# Altium schematic symbol library LVDS.SchLib: 7 symbols
Pins are listed as number, name and electrical type; pins without a type are passive.

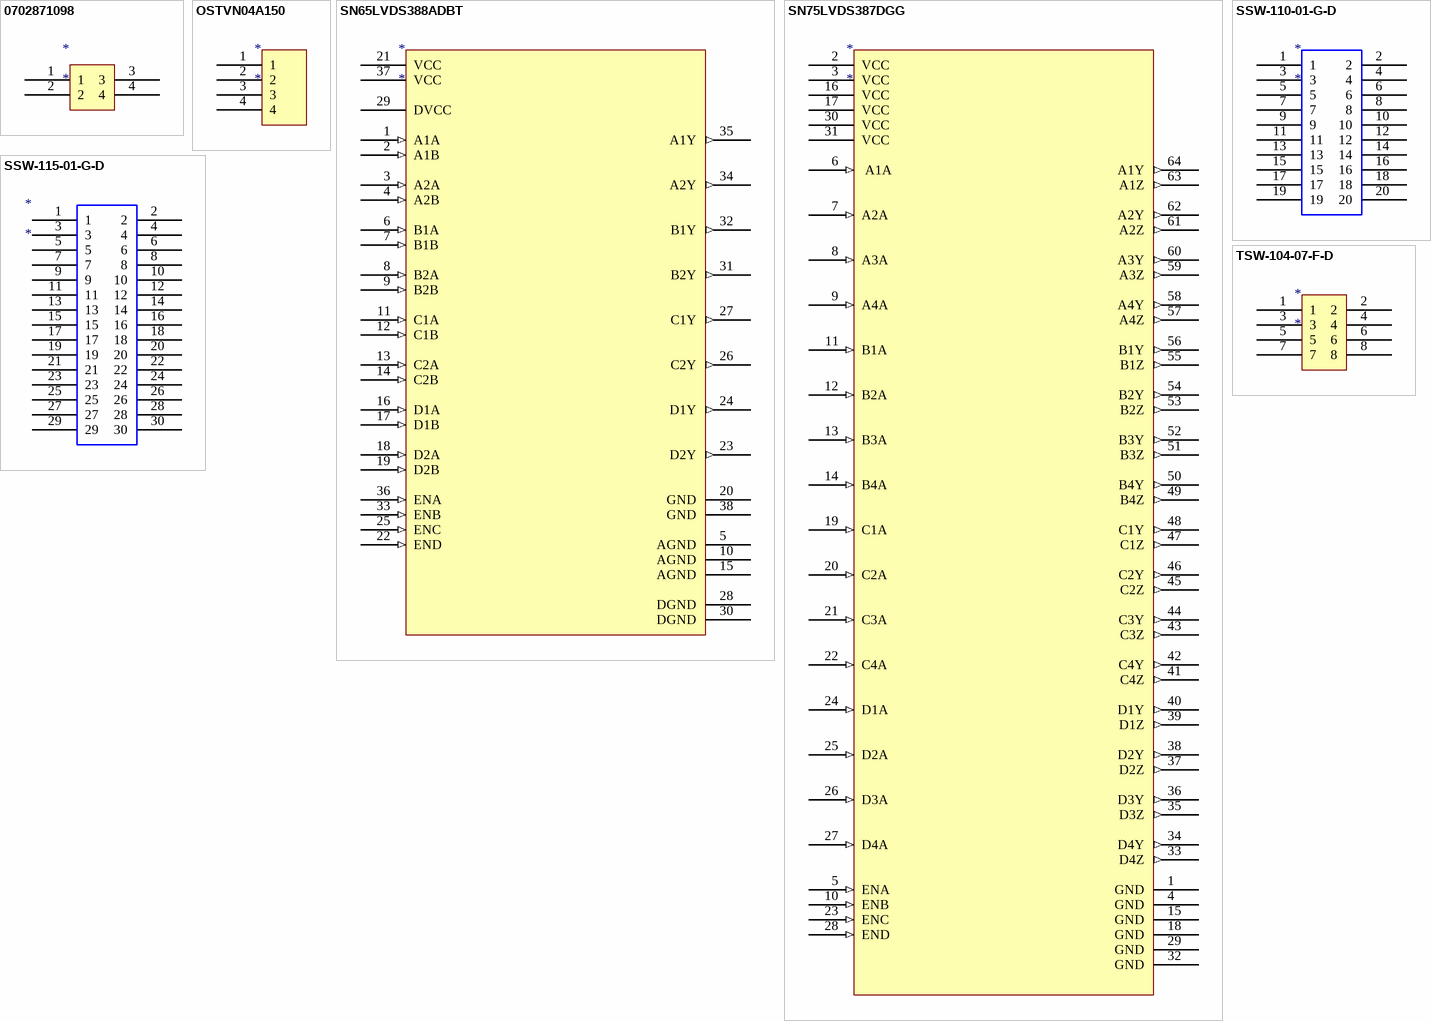
[diagram p0: symbols 0702871098 to TSW-104-07-F-D]

## 0702871098
designator *
Conn Unshrouded Header HDR 4 POS 2.54mm Solder ST Thru-Hole C-Grid® Bag; Manufacturer: Molex; Manufacturer Part Number: 0702871098; Supplier: Mouser; Supplier Part Number: 538-70287-1098; RoHS: Yes; Category: Uncategorized; Stock: 14353; Pricing: 1=0.53, 10=0.448, 50=0.448, 100=0.349, 1000=0.274, 10000=0.221 (USD); RoHS Compliant: Yes; Reach SVHC Compliant: Yes; ComponentLink1URL: https://datasheet.ciiva.com:443/pdfs/VipMasterIC/IC/MOLE/MOLE-S-A0008016477/MOLE-S-A0006766117-1.pdf?src-supplier=IHS+Markit; ComponentLink1Description: https://datasheet.ciiva.com:443/pdfs/VipMasterIC/IC/MOLE/MOLE-S-A0008016477/MOLE-S-A0006766117-1.pdf?src-supplier=IHS+Markit; ComponentLink2URL: https://datasheet.ciiva.com/9470/0702871098-pcb-headers-9470347.pdf?src-supplier=Avnet; ComponentLink2Description: https://datasheet.ciiva.com/9470/0702871098-pcb-headers-9470347.pdf?src-supplier=Avnet; ComponentLink3URL: https://datasheet.ciiva.com/2961/702871098-sd-2961361.pdf?src-supplier=Digi-Key; ComponentLink3Description: https://datasheet.ciiva.com/2961/702871098-sd-2961361.pdf?src-supplier=Digi-Key
pins: 1, 2, 3, 4

## OSTVN04A150
designator *
Barrier Strip Terminal Block, 6A, 1 Row(s), 1 Deck(s); Manufacturer: On-Shore Technology; Manufacturer Part Number: OSTVN04A150; Fastening Method: SCREW; Additional Feature: STANDARD: UL 94V-0, THERMOPLASTIC; Number of Decks: 1; Number of Ways: 4; Voltage Rating: 125V; Wire/Cable Gauge: 20AWG; Safety Approval: UL,CUL; Supplier: Digi-Key; Supplier Part Number: ED10563-ND; RoHS: Yes; Category: Terminal Blocks; Stock: 3152; Pricing: 1=1.39, 10=0.979, 25=0.9128, 50=0.8286, 100=0.8249, 250=0.6966, 500=0.65994, 1000=0.58661, 5000=0.47662 (USD); Mounting Technology: Board; Number of Rows: 1; Current Rating: 6A; Terminal and Terminal Block Type: BARRIER STRIP TERMINAL BLOCK; Reach SVHC Compliant: Yes; RoHS Compliant: Yes; ComponentLink1URL: https://datasheet.ciiva.com:443/pdfs/VipMasterIC/IC/ONST/ONSTS00240/ONSTS00114-1.pdf?src-supplier=IHS+Markit; ComponentLink1Description: https://datasheet.ciiva.com:443/pdfs/VipMasterIC/IC/ONST/ONSTS00240/ONSTS00114-1.pdf?src-supplier=IHS+Markit; ComponentLink2URL: https://datasheet.ciiva.com/823/ostvnxxa150-823966.pdf?src-supplier=Digi-Key; ComponentLink2Description: https://datasheet.ciiva.com/823/ostvnxxa150-823966.pdf?src-supplier=Digi-Key
pins: 1, 2, 3, 4

## SN65LVDS388ADBT
designator *
Line Receiver, 8 Func, 8 Rcvr, CMOS, PDSO38; Manufacturer: Texas Instruments; Manufacturer Part Number: SN65LVDS388ADBT; Package Body Material: Plastic; Differential Output: No; Input Characteristics: DIFFERENTIAL; Channels: 8; Output Low Current-Max: 8mA; Power Supplies: 3.3V; Receive Delay-Max: 4ns; Max Supply Current: 40mA; Max Supply Voltage: 3.6V; Min Supply Voltage: 3V; Qualification Status: Not Qualified; Supplier: Digi-Key; Supplier Part Number: 296-6926-5-ND; RoHS: Yes; Category: Interface ICs; Stock: 22; Pricing: 1=6, 10=5.393, 25=5.0984, 100=4.4187, 250=4.19208, 500=3.76156, 1000=3.1724, 2500=3.01378 (USD); Case/Package: TSSOP; Pins: 38; Package Shape: Rectangular; Terminal Finish: Nickel; Min Operating Temperature: -40°C; Max Operating Temperature: 85°C; JESD-609 Code: e4; Interface IC Type: LINE RECEIVER; Moisture Sensitivity Level: 2; Package Style: SMALL OUTLINE, THIN PROFILE, SHRINK PITCHMeter; Peak Reflow Temperature (Cel): 260°C; Receiver Number of Bits: 8; Nominal Supply Voltage: 3.3V; Surface Mount: Yes; Technology: CMOS; Terminal Form: Gull Wing; Terminal Position: DUAL; Length: 9.7mm; Width: 4.4mm; Height - Seated (Max): 1.2mm; Terminal Pitch: 0.5mm; Temperature Grade: INDUSTRIAL; Reach SVHC Compliant: Yes; RoHS Compliant: Yes; ComponentLink1URL: https://www.ti.com:443/lit/ds/symlink/sn65lvds386.pdf?src-supplier=IHS+Markit; ComponentLink1Description: https://www.ti.com:443/lit/ds/symlink/sn65lvds386.pdf?src-supplier=IHS+Markit; ComponentLink2URL: https://datasheet.ciiva.com/1708/sn65lvds386-1708540.pdf?src-supplier=Digi-Key; ComponentLink2Description: https://datasheet.ciiva.com/1708/sn65lvds386-1708540.pdf?src-supplier=Digi-Key; ComponentLink3URL: https://datasheet.ciiva.com/3151/sn65lvds390-3151563.pdf?src-supplier=Avnet; ComponentLink3Description: https://datasheet.ciiva.com/3151/sn65lvds390-3151563.pdf?src-supplier=Avnet; ComponentLink4URL: https://datasheet.ciiva.com/15151/getdatasheetpartid-43449-15151030.pdf?src-supplier=Verical; ComponentLink4Description: https://datasheet.ciiva.com/15151/getdatasheetpartid-43449-15151030.pdf?src-supplier=Verical; ComponentLink5URL: https://datasheet.ciiva.com/1498/1831133-1498284.pdf?src-supplier=Element14; ComponentLink5Description: https://datasheet.ciiva.com/1498/1831133-1498284.pdf?src-supplier=Element14
pins: 1 A1A (in), 2 A1B (in), 3 A2A (in), 4 A2B (in), 5 AGND (power), 6 B1A (in), 7 B1B (in), 8 B2A (in), 9 B2B (in), 10 AGND (power), 11 C1A (in), 12 C1B (in), 13 C2A (in), 14 C2B (in), 15 AGND (power), 16 D1A (in), 17 D1B (in), 18 D2A (in), 19 D2B (in), 20 GND (power), 21 VCC (power), 22 END (in), 23 D2Y (out), 24 D1Y (out), 25 ENC (in), 26 C2Y (out), 27 C1Y (out), 28 DGND (power), 29 DVCC (power), 30 DGND (power), 31 B2Y (out), 32 B1Y (out), 33 ENB (in), 34 A2Y (out), 35 A1Y (out), 36 ENA (in), 37 VCC (power), 38 GND (power)

## SN75LVDS387DGG
designator *
Line Driver, 16 Func, 16 Driver, CMOS, PDSO64; Manufacturer: Texas Instruments; Manufacturer Part Number: SN75LVDS387DGG; Package Body Material: Plastic; Differential Output: Yes; Driver Number of Bits: 16; High Level Input Current-Max: 20uA; Input Characteristics: STANDARD; Out Swing-Min: 247mV; Output Characteristics: 3-STATE; Power Supplies: 3.3V; Receive Delay-Max: 0ns; Max Supply Voltage: 3.6V; Min Supply Voltage: 3V; Transmit Delay-Max: 2.9ns; Qualification Status: Not Qualified; Supplier: Digi-Key; Supplier Part Number: 296-2367-5-ND; RoHS: Yes; Category: Interface ICs; Stock: 664; Pricing: 1=12.08, 10=10.913, 25=10.4056, 100=9.035, 250=8.62892, 500=7.86756, 1000=6.85238 (USD); Case/Package: TSSOP; Pins: 64; Package Shape: Rectangular; Terminal Finish: Nickel; Min Operating Temperature: 0°C; Max Operating Temperature: 70°C; JESD-609 Code: e4; Interface IC Type: LINE DRIVER; Moisture Sensitivity Level: 2; Channels: 16; Package Style: SMALL OUTLINE, THIN PROFILE, SHRINK PITCHMeter; Peak Reflow Temperature (Cel): 260°C; Nominal Supply Voltage: 3.3V; Surface Mount: Yes; Technology: CMOS; Terminal Form: Gull Wing; Terminal Position: DUAL; Length: 17mm; Width: 6.1mm; Height - Seated (Max): 1.2mm; Terminal Pitch: 0.5mm; Temperature Grade: COMMERCIAL; Reach SVHC Compliant: Yes; RoHS Compliant: Yes; ComponentLink1URL: https://www.ti.com:443/lit/ds/symlink/sn65lvds387.pdf?src-supplier=IHS+Markit; ComponentLink1Description: https://www.ti.com:443/lit/ds/symlink/sn65lvds387.pdf?src-supplier=IHS+Markit; ComponentLink2URL: https://datasheet.ciiva.com/3151/sn75lvds389-3151600.pdf?src-supplier=Avnet; ComponentLink2Description: https://datasheet.ciiva.com/3151/sn75lvds389-3151600.pdf?src-supplier=Avnet; ComponentLink3URL: https://datasheet.ciiva.com/1709/sn65lvds387-1709399.pdf?src-supplier=Digi-Key; ComponentLink3Description: https://datasheet.ciiva.com/1709/sn65lvds387-1709399.pdf?src-supplier=Digi-Key; ComponentLink4URL: https://datasheet.ciiva.com/1498/668195-1498817.pdf?src-supplier=Element14; ComponentLink4Description: https://datasheet.ciiva.com/1498/668195-1498817.pdf?src-supplier=Element14
pins: 1 GND (power), 2 VCC (power), 3 VCC (power), 4 GND (power), 5 ENA (in), 6  A1A (in), 7 A2A (in), 8 A3A (in), 9 A4A (in), 10 ENB (in), 11 B1A (in), 12 B2A (in), 13 B3A (in), 14 B4A (in), 15 GND (power), 16 VCC (power), 17 VCC (power), 18 GND (power), 19 C1A (in), 20 C2A (in), 21 C3A (in), 22 C4A (in), 23 ENC (in), 24 D1A (in), 25 D2A (in), 26 D3A (in), 27 D4A (in), 28 END (in), 29 GND (power), 30 VCC (power), 31 VCC (power), 32 GND (power), 33 D4Z (out), 34 D4Y (out), 35 D3Z (out), 36 D3Y (out), 37 D2Z (out), 38 D2Y (out), 39 D1Z (out), 40 D1Y (out), 41 C4Z (out), 42 C4Y (out), 43 C3Z (out), 44 C3Y (out), 45 C2Z (out), 46 C2Y (out), 47 C1Z (out), 48 C1Y (out), 49 B4Z (out), 50 B4Y (out), 51 B3Z (out), 52 B3Y (out), 53 B2Z (out), 54 B2Y (out), 55 B1Z (out), 56 B1Y (out), 57 A4Z (out), 58 A4Y (out), 59 A3Z (out), 60 A3Y (out), 61 A2Z (out), 62 A2Y (out), 63 A1Z (out), 64 A1Y (out)

## SSW-110-01-G-D
designator *
Board Connector, 20 Contact(s), 2 Row(s), Female, Straight, 0.1 inch Pitch, Solder Terminal, Locking, Socket; Manufacturer: Samtec; Manufacturer Part Number: SSW-110-01-G-D; Option: General Purpose; Filter Feature: No; Number of Rows Loaded: 2; Number of Contacts: 20; Additional Feature: TIGER BUY CONTACT; Contact Pattern: RECTANGULAR; Contact Style: SQ PIN-SKT; Mating Information: MULTIPLE MATING PARTS AVAILABLE; Number Of Connectors: 1; Body Breadth: 0.195inch; Body Length: 1.02inch; PCB Contact Row Spacing: 2.54mm; Plating Thickness: 20uin; Reference Standard: UL; Reliability: COMMERCIAL; Supplier: Arrow Electronics; Supplier Part Number: SSW-110-01-G-D; RoHS: Yes; Category: Headers and Wire Housings; Stock: 34851; Pricing: 1=3.512, 50=3.36, 100=2.897, 500=2.758, 1000=2.425, 2000=2.222, 5000=2.0831, 10000=1.8283, 25000=1.7803, 50000=1.7432 (USD); Mounting Technology: Board; Contact Finish - Mating: GOLD (20) OVER NICKEL (50); Contact Finish - Termination: Gold (Au) - with Nickel (Ni) barrier; Insulation Material: Polymer; Contact Material: Bronze; Connector Type: BOARD CONNECTOR; Body/Shell Style: SOCKET; Contact Gender: Female; Mixed Contacts: No; Mounting Style: STRAIGHT; Termination: Solder; JESD-609 Code: e4; Number Of PCB Rows: 2; PCB Contact Pattern: RECTANGULAR; Terminal Pitch: 2.54mm; Mating Contact Pitch: 0.1inch; Mating Contact Row Spacing: 0.1inch; Mounting Option 1: LOCKING; Flammability Rating: UL94 V-0; Reach SVHC Compliant: Yes; RoHS Compliant: Yes; DIN Conformance: No; IEC Conformance: No; MIL Conformance: No; ComponentLink1URL: https://datasheet.ciiva.com:443/pdfs/VipMasterIC/IC/SAMI/SAMI-S-A0003534850/SAMI-S-A0003534850-1.pdf?src-supplier=IHS+Markit; ComponentLink1Description: https://datasheet.ciiva.com:443/pdfs/VipMasterIC/IC/SAMI/SAMI-S-A0003534850/SAMI-S-A0003534850-1.pdf?src-supplier=IHS+Markit; ComponentLink2URL: https://datasheet.ciiva.com/25617/0900766b8115c03d-25617948.pdf?src-supplier=Rs; ComponentLink2Description: https://datasheet.ciiva.com/25617/0900766b8115c03d-25617948.pdf?src-supplier=Rs; ComponentLink3URL: https://datasheet.ciiva.com/22677/82032-22677781.pdf?src-supplier=Element14; ComponentLink3Description: https://datasheet.ciiva.com/22677/82032-22677781.pdf?src-supplier=Element14; ComponentLink4URL: https://datasheet.ciiva.com/749/ssw-1xx-xx-xxx-x-xx-xxx-xx-mkt-749821.pdf?src-supplier=Digi-Key; ComponentLink4Description: https://datasheet.ciiva.com/749/ssw-1xx-xx-xxx-x-xx-xxx-xx-mkt-749821.pdf?src-supplier=Digi-Key
pins: 1, 2, 3, 4, 5, 6, 7, 8, 9, 10, 11, 12, 13, 14, 15, 16, 17, 18, 19, 20

## SSW-115-01-G-D
designator *
Board Connector, 30 Contact(s), 2 Row(s), Female, Straight, 0.1 inch Pitch, Solder Terminal, Locking, Socket; Manufacturer: Samtec; Manufacturer Part Number: SSW-115-01-G-D; Manufacturer Series: SSW-1; Option: General Purpose; Contact Pattern: RECTANGULAR; Contact Style: SQ PIN-SKT; Filter Feature: No; Number Of Connectors: 1; Number Of PCB Rows: 2; Number of Contacts: 30; Mating Information: MULTIPLE MATING PARTS AVAILABLE; Additional Feature: TIGER BUY CONTACT; Body Length: 1.52inch; PCB Contact Row Spacing: 2.54mm; Body Breadth: 0.195inch; Plating Thickness: 20uin; Reference Standard: UL; Reliability: COMMERCIAL; Supplier: Arrow Electronics; Supplier Part Number: SSW-115-01-G-D; RoHS: Yes; Category: Connectors; Stock: 6; Pricing: 1=5.2116, 10=4.447, 25=4.4359, 50=4.4257, 100=4.0379, 250=3.72, 500=3.5932 (USD); Mounting Technology: Board; Contact Finish - Mating: GOLD (20) OVER NICKEL (50); Insulation Material: Polymer; Contact Finish - Termination: Gold (Au) - with Nickel (Ni) barrier; Contact Material: Bronze; Connector Type: BOARD CONNECTOR; Body/Shell Style: SOCKET; Contact Gender: Female; Mixed Contacts: No; Mounting Style: STRAIGHT; Number of Rows Loaded: 2; PCB Contact Pattern: RECTANGULAR; Termination: Solder; JESD-609 Code: e4; Mating Contact Pitch: 0.1inch; Mating Contact Row Spacing: 0.1inch; Terminal Pitch: 2.54mm; Mounting Option 1: LOCKING; Flammability Rating: UL94 V-0; DIN Conformance: No; IEC Conformance: No; MIL Conformance: No; Reach SVHC Compliant: Yes; RoHS Compliant: Yes; ComponentLink1URL: https://datasheet.ciiva.com:443/pdfs/VipMasterIC/IC/SAMI/SAMI-S-A0000099790/SAMI-S-A0001471334-1.pdf?src-supplier=IHS+Markit; ComponentLink1Description: https://datasheet.ciiva.com:443/pdfs/VipMasterIC/IC/SAMI/SAMI-S-A0000099790/SAMI-S-A0001471334-1.pdf?src-supplier=IHS+Markit; ComponentLink2URL: https://datasheet.ciiva.com/25617/0900766b8115c03d-25617554.pdf?src-supplier=Rs; ComponentLink2Description: https://datasheet.ciiva.com/25617/0900766b8115c03d-25617554.pdf?src-supplier=Rs; ComponentLink3URL: https://datasheet.ciiva.com/22677/82032-22677783.pdf?src-supplier=Element14; ComponentLink3Description: https://datasheet.ciiva.com/22677/82032-22677783.pdf?src-supplier=Element14; ComponentLink4URL: https://datasheet.ciiva.com/749/ssw-1xx-xx-xxx-x-xx-xxx-xx-mkt-749816.pdf?src-supplier=Digi-Key; ComponentLink4Description: https://datasheet.ciiva.com/749/ssw-1xx-xx-xxx-x-xx-xxx-xx-mkt-749816.pdf?src-supplier=Digi-Key
pins: 1, 2, 3, 4, 5, 6, 7, 8, 9, 10, 11, 12, 13, 14, 15, 16, 17, 18, 19, 20, 21, 22, 23, 24, 25, 26, 27, 28, 29, 30

## TSW-104-07-F-D
designator *
Board Connector, 8 Contact(s), 2 Row(s), Male, Straight, 0.1 inch Pitch, Solder Terminal, Black Insulator; Manufacturer: Samtec; Manufacturer Part Number: TSW-104-07-F-D; Option: General Purpose; Filter Feature: No; Number of Rows Loaded: 2; Number of Contacts: 8; Additional Feature: E.L.P.; Mating Information: MULTIPLE MATING PARTS AVAILABLE; Body/Shell Style: RECEPTACLE; Contact Pattern: RECTANGULAR; Contact Style: SQ PIN-SKT; Number Of Connectors: 1; PCB Contact Row Spacing: 5.08mm; Reference Standard: UL; Reliability: COMMERCIAL; Supplier: Arrow Electronics; Supplier Part Number: TSW-104-07-F-D; RoHS: Yes; Category: Connectors; Stock: 1; Pricing: 1=0.9123, 50=0.706, 100=0.5756 (USD); Mounting Technology: Board; Contact Finish - Termination: Matte Tin (Sn) - with Nickel (Ni) barrier; Contact Material: Bronze; Contact Finish - Mating: GOLD FLASH OVER NICKEL (50); Insulation Color: Black; Insulation Material: Glass; Connector Type: BOARD CONNECTOR; JESD-609 Code: e3; Contact Gender: Male; Mixed Contacts: No; Mounting Style: STRAIGHT; Termination: Solder; Number Of PCB Rows: 2; PCB Contact Pattern: RECTANGULAR; Terminal Pitch: 2.54mm; Body Breadth: 0.1inch; Body Depth: 0.1inch; Mating Contact Pitch: 0.1inch; Mating Contact Row Spacing: 0.1inch; Terminal Length: 0.1inch; Flammability Rating: UL94 V-0; DIN Conformance: No; IEC Conformance: No; MIL Conformance: No; Reach SVHC Compliant: Yes; RoHS Compliant: Yes; ComponentLink1URL: https://datasheet.ciiva.com:443/pdfs/VipMasterIC/IC/SAMI/SAMI-S-A0003531373/SAMI-S-A0003531373-1.pdf?src-supplier=IHS+Markit; ComponentLink1Description: https://datasheet.ciiva.com:443/pdfs/VipMasterIC/IC/SAMI/SAMI-S-A0003531373/SAMI-S-A0003531373-1.pdf?src-supplier=IHS+Markit; ComponentLink2URL: https://datasheet.ciiva.com/739/tsw-xxx-xx-xxx-x-xx-xxx-mkt-739906.pdf?src-supplier=Digi-Key; ComponentLink2Description: https://datasheet.ciiva.com/739/tsw-xxx-xx-xxx-x-xx-xxx-mkt-739906.pdf?src-supplier=Digi-Key
pins: 1, 2, 3, 4, 5, 6, 7, 8